# Altium integrated library Analog Devices Data Converters Analog-to-Digital Converters.IntLib: 2400 symbols (part 33 of 338)
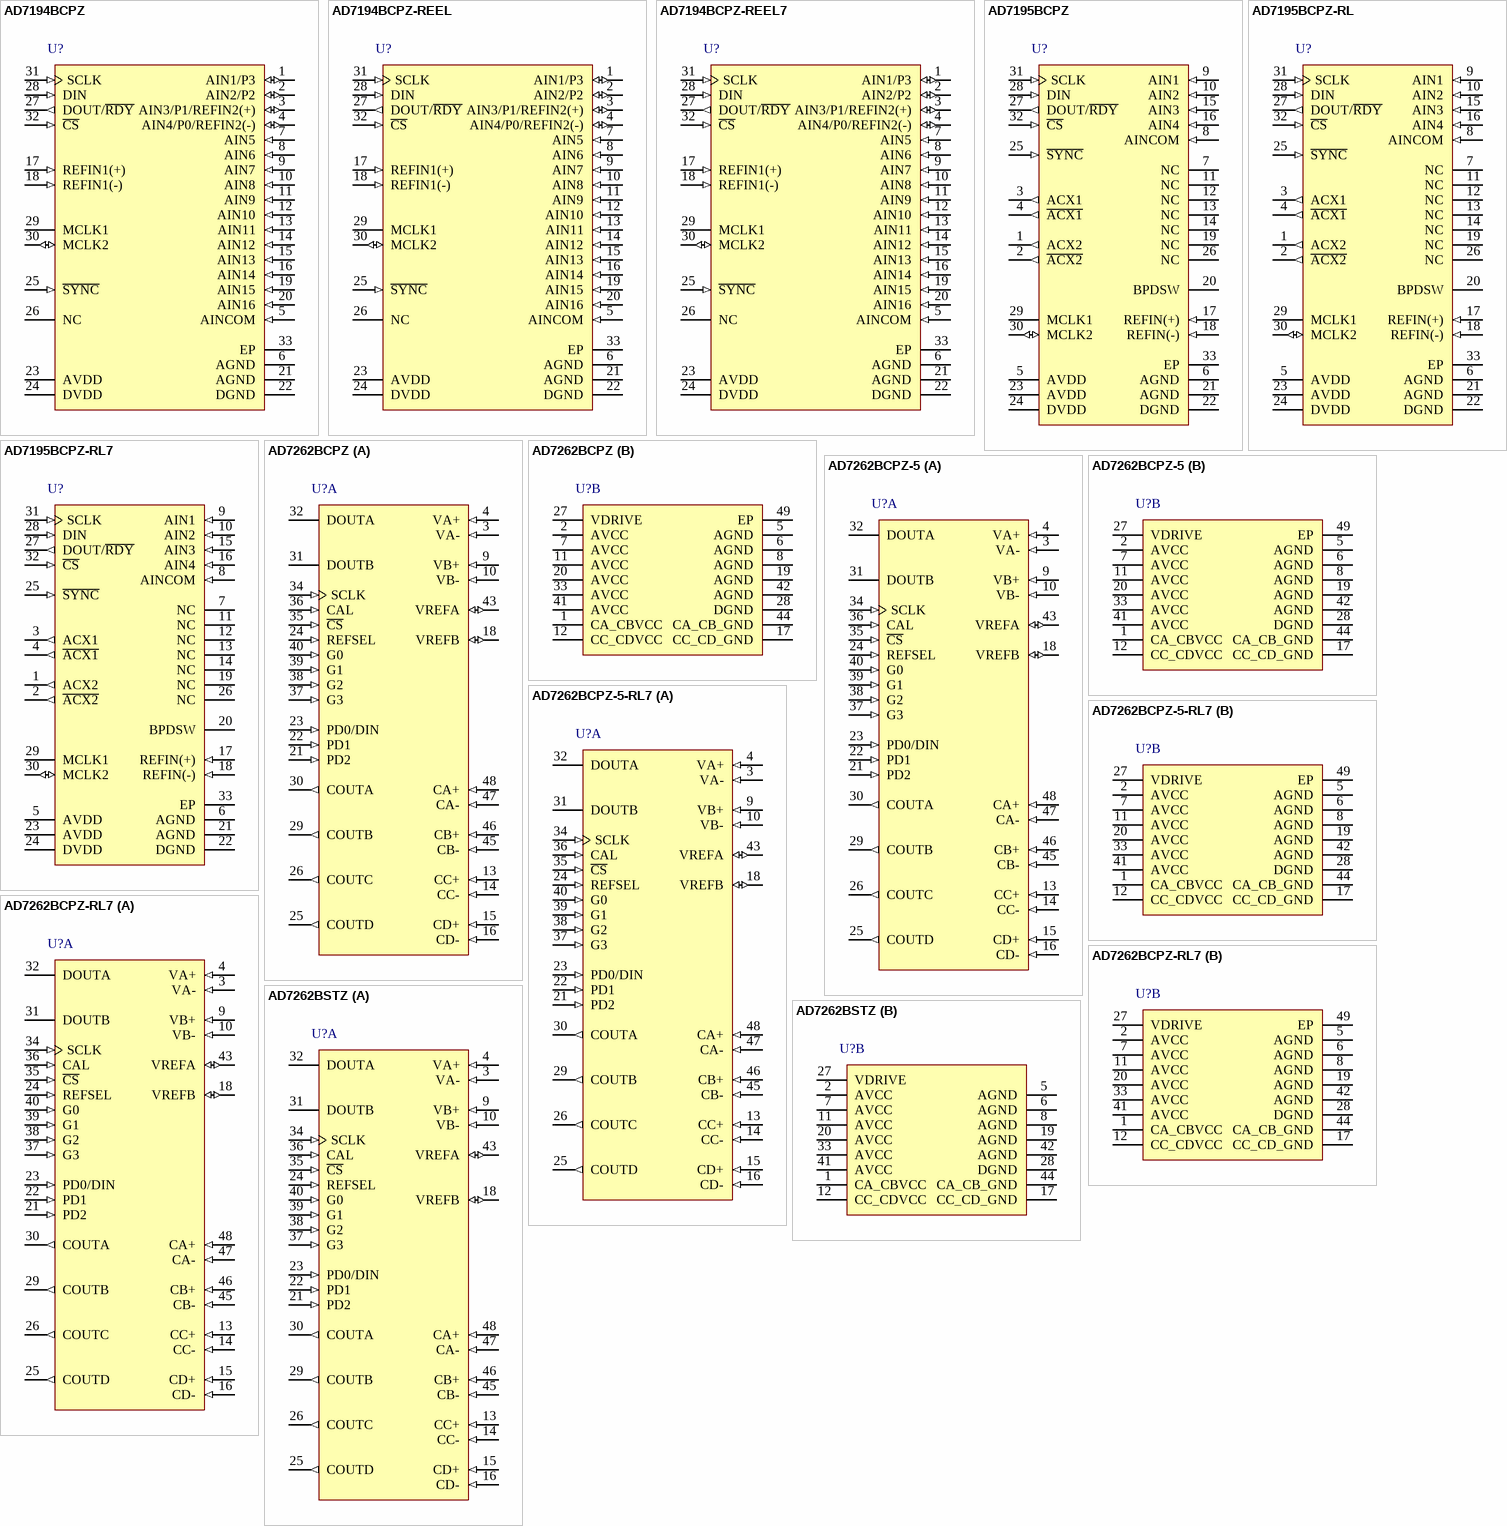
[diagram p173: symbols AD7194BCPZ to AD7262BSTZ]

## AD7195BCPZ-RL7
designator U?
Quad 24-Bit Ultralow Noise Sigma-Delta Analog-to-Digital Converter with Serial, SPI Interface and PGA, 4.8KSPS, -40 to +105 degC, CP-32-11, Pb-Free, Reel; Part Number: AD7195; Manufacturer: Analog Devices; Resolution (Bits): 24; Channels: 4; Throughput Rate (SPS): 4.8K; Interface: Ser, SPI; DatasheetVersion: Rev.0; PackageVersion: 011708-A; PackageReference: CP-32-11; PackageDescription: 32-Lead Lead Frame Chip Scale Package [LFCSP_VQ] 5 x 5 mm Body, Very Thin Quad; RoHS: Y; Packing: Reel; Mounting Technology: Surface Mount; ComponentLink1Description: Manufacturer URL; ComponentLink1URL: http://www.analog.com/en/index.html; ComponentLink2Description: Datasheet; ComponentLink2URL: http://www.analog.com/static/imported-files/data_sheets/AD7195.pdf; ComponentLink3Description: Package Specification; ComponentLink3URL: http://www.analog.com/static/imported-files/packages/PKG_PDF/LFCSP(CP)/CP-32/CP_32_11.pdf; ComponentLink4Description: Product URL; ComponentLink4URL: http://www.analog.com/en/analog-to-digital-converters/ad-converters/ad7195/products/product.html
footprint CP-32-11_N (QFN, 32-Leads, Body 5x5mm, Pitch 0.5mm, Thermal Pad 3.6x3.6mm, IPC Medium Density)
footprint CP-32-11_L (QFN, 32-Leads, Body 5x5mm, Pitch 0.5mm, Thermal Pad 3.6x3.6mm, IPC High Density)
footprint CP-32-11_M (QFN, 32-Leads, Body 5x5mm, Pitch 0.5mm, Thermal Pad 3.6x3.6mm, IPC Low Density)
pins: 1 ACX2 (out) "Digital Output. Provides a signal that can be used to control the reversing of the bridge excitation in ac excited bridge applications. In ac mode, ACX2 toggles in anti-phase with ACX1. If the ACX bit equals zero (ac (See Datasheet)", 2 ~{ACX2} (out) "Digital Output. Provides a signal that can be used to control the reversing of the bridge excitation in ac excited bridge applications. This output is the inverse of ACX2. If the ACX bit equals zero (ac excitation turned (See Datasheet)", 3 ACX1 (out) "Digital Output. Provides a signal that can be used to control the reversing of the bridge excitation in ac excited bridge applications. When ACX1 is high, the bridge excitation is taken as normal and when ACX1 is low, the (See Datasheet)", 4 ~{ACX1} (out) "Digital Output. Provides a signal that can be used to control the reversing of the bridge excitation in ac excited bridge applications. This output is the inverse of ACX1. When A\C\X\1\ is low, the bridge excitation is taken (See Datasheet)", 5 AVDD (power) "Analog Supply Voltage, 4.75 V to 5.25 V. AVDD is independent of DVDD.", 6 AGND (power) "Analog Ground Reference Point.", 7 NC "No Connect. This pin should be tied to AGND.", 8 AINCOM (in) "Analog inputs AIN1 to AIN4 are referenced to this input when configured for pseudo differential operation.", 9 AIN1 (in) "Analog Input. This pin can be configured as the positive input of a fully differential input pair when used with AIN2 or as a pseudo differential input when used with AINCOM.", 10 AIN2 (in) "Analog Input. This pin can be configured as the negative input of a fully differential input pair when used with AIN1 or as a pseudo differential input when used with AINCOM.", 11 NC "No Connect. This pin should be tied to AGND.", 12 NC "No Connect. This pin should be tied to AGND.", 13 NC "No Connect. This pin should be tied to AGND.", 14 NC "No Connect. This pin should be tied to AGND.", 15 AIN3 (in) "Analog Input. This pin can be configured as the positive input of a fully differential input pair when used with AIN4 or as a pseudo differential input when used with AINCOM.", 16 AIN4 (in) "Analog Input. This pin can be configured as the negative input of a fully differential input pair when used with AIN3 or as a pseudo differential input when used with AINCOM.", 17 REFIN(+) (in) "Positive Reference Input. An external reference can be applied between REFIN(+) and REFIN(-). REFIN(+) can lie anywhere between AVDD and AGND + 1 V. The nominal reference voltage, (REFIN(+) - REFIN(-)), is AVDD,but the part (See Datasheet)", 18 REFIN(-) (in) "Negative Reference Input. This reference input can lie anywhere between AGND and AVDD - 1 V.", 19 NC "No Connect. This pin should be tied to AGND.", 20 BPDSW "Bridge Power-Down Switch to AGND.", 21 AGND (power) "Analog Ground Reference Point.", 22 DGND (power) "Digital Ground Reference Point.", 23 AVDD (power) "Analog Supply Voltage, 4.75 V to 5.25 V. AVDD is independent of DVDD.", 24 DVDD (power) "Digital Supply Voltage, 2.7 V to 5.25 V. DVDD is independent of AVDD.", 25 ~{SYNC} (in) "Logic input that allows for synchronization of the digital filters and analog modulators when using a number of AD7195 devices. While S\Y\N\C\ is low, the nodes of the digital filter, the filter control logic, and the (See Datasheet)", 26 NC "No Connect. This pin should be tied to AGND.", 27 DOUT/~{RDY} (out) "Serial Data Output/Data Ready Output. DOUT/R\D\Y\ serves a dual purpose. It functions as a serial data output pin to access the output shift register of the ADC. The output shift register can contain data from any of the (See Datasheet)", 28 DIN (in) "Serial Data Input to the Input Shift Register on the ADC. Data in this shift register is transferred to the control registers in the ADC, with the register selection bits of the communications register identifying the (See Datasheet)", 29 MCLK1 "When the master clock for the device is provided externally by a crystal, the crystal is connected between MCLK1 and MCLK2.", 30 MCLK2 (io) "Master Clock Signal for the Device. The AD7195 has an internal 4.92 MHz clock. This internal clock can be made available on the MCLK2 pin. The clock for the AD7195 can be provided externally also in the form of a crystal or (See Datasheet)", 31 SCLK (in) "Serial Clock Input. This serial clock input is for data transfers to and from the ADC. The SCLK has a Schmitttriggered input, making the interface suitable for opto-isolated applications. The serial clock can be continuous (See Datasheet)", 32 ~{CS} (in) "Chip Select Input. This is an active low logic input used to select the ADC. C\S\ can be used to select the ADC in systems with more than one device on the serial bus or as a frame synchronization signal in communicating (See Datasheet)", 33 EP (power) "Connect Exposed Pad to AGND."

## AD7262BCPZ
designator U?
Dual 12-Bit SAR Analog-to-Digital Converter with Serial, SPI Interface and PGA, Four Comparators, Simultaneous Sampling, 1MSPS, -40 to +105 degC, CP-48-1, Pb-Free, Tray; Part Number: AD7262; Manufacturer: Analog Devices; Resolution (Bits): 12; Channels: 2; Throughput Rate (SPS): 1M; Interface: Ser, SPI; DatasheetVersion: Rev.0; PackageVersion: Jan-2005; PackageReference: CP-48-1; PackageDescription: 48-Lead Lead Frame Chip Scale Package [LFCSP_VQ] 7 x 7 mm Body, Very Thin Quad; RoHS: Y; Packing: Tray; Mounting Technology: Surface Mount; Code_JEDEC: MO-220-VKKD-2; ComponentLink1Description: Manufacturer URL; ComponentLink1URL: http://www.analog.com/en/index.html; ComponentLink2Description: Datasheet; ComponentLink2URL: http://www.analog.com/static/imported-files/data_sheets/AD7262.pdf; ComponentLink3Description: Package Specification; ComponentLink3URL: http://www.analog.com/static/imported-files/packages/PKG_PDF/LFCSP(CP)/CP-48/CP_48_1.pdf; ComponentLink4Description: Product URL; ComponentLink4URL: http://www.analog.com/en/analog-to-digital-converters/ad-converters/ad7262/products/product.html
footprint CP-48-1_N (QFN, 48-Leads, Body 7x7mm, Pitch 0.5mm, Thermal Pad 5.1x5.1mm, IPC Medium Density)
footprint CP-48-1_L (QFN, 48-Leads, Body 7x7mm, Pitch 0.5mm, Thermal Pad 5.1x5.1mm, IPC High Density)
footprint CP-48-1_M (QFN, 48-Leads, Body 7x7mm, Pitch 0.5mm, Thermal Pad 5.1x5.1mm, IPC Low Density)
part A pins: 3 VA- (in) "Analog Inputs of ADC A. True differential input pair.", 4 VA+ (in) "Analog Inputs of ADC A. True differential input pair.", 9 VB+ (in) "Analog Inputs of ADC B. True differential input pair", 10 VB- (in) "Analog Inputs of ADC B. True differential input pair", 13 CC+ (in) "Comparator Inputs. These pins are the inverting and noninverting analog inputs for Comparator C and Comparator D. This pair of comparators offers very fast propagation delays.", 14 CC- (in) "Comparator Inputs. These pins are the inverting and noninverting analog inputs for Comparator C and Comparator D. This pair of comparators offers very fast propagation delays.", 15 CD+ (in) "Comparator Inputs. These pins are the inverting and noninverting analog inputs for Comparator C and Comparator D. This pair of comparators offers very fast propagation delays.", 16 CD- (in) "Comparator Inputs. These pins are the inverting and noninverting analog inputs for Comparator C and Comparator D. This pair of comparators offers very fast propagation delays.", 18 VREFB (io) "Reference Input/Output. Decoupling capacitors are connected to these pins to decouple the internal reference buffer for each respective ADC. Typically, 1 uF capacitors are required to decouple the reference. Provided the (See Datasheet)", 21 PD2 (in) "Logic Input. Places the AD7262/AD7262-5 in selected shutdown mode in conjunction with the PD1 and PD0 pins.", 22 PD1 (in) "Logic Input. Places the AD7262/AD7262-5 in selected shutdown mode in conjunction with the PD2 and PD0 pins.", 23 PD0/DIN (in) "Logic Input/Data Input. Places the AD7262/AD7262-5 in selected shutdown mode in conjunction with the PD2 and PD1 pins (see Table 7). If all gain selection pins, G0 to G3, are tied low, this pin acts as the data input pin, (See Datasheet)", 24 REFSEL (in) "Internal/External Reference Selection. Logic input. If this pin is tied to a logic high voltage, the on chip 2.5 V reference is used as the reference source for both ADC A and ADC B. If the REFSEL pin is tied to GND, an (See Datasheet)", 25 COUTD (out) "Comparator Outputs. These pins provide a CMOS (push-pull) output from each respective comparator. These are digital output pins with logic levels determined by the VDRIVE supply.", 26 COUTC (out) "Comparator Outputs. These pins provide a CMOS (push-pull) output from each respective comparator. These are digital output pins with logic levels determined by the VDRIVE supply.", 29 COUTB (out) "Comparator Outputs. These pins provide a CMOS (push-pull) output from each respective comparator. These are digital output pins with logic levels determined by the VDRIVE supply.", 30 COUTA (out) "Comparator Outputs. These pins provide a CMOS (push-pull) output from each respective comparator. These are digital output pins with logic levels determined by the VDRIVE supply.", 31 DOUTB (hiz) "Serial Data Outputs. The data output from the AD7262/AD7262-5 is supplied to each pin as a serial data stream in twos complement format. The bits are clocked out on the falling edge of the SCLK input. A total of 31 SCLKs is (See Datasheet)", 32 DOUTA (hiz) "Serial Data Outputs. The data output from the AD7262/AD7262-5 is supplied to each pin as a serial data stream in twos complement format. The bits are clocked out on the falling edge of the SCLK input. A total of 31 SCLKs is (See Datasheet)", 34 SCLK (in) "Serial Clock. Logic input. A serial clock input provides the SCLK for accessing the data from the AD7262/AD7262-5. This clock is also used as the clock source for the conversion process. A minimum of 31 clocks is required to (See Datasheet)", 35 ~{CS} (in) "Chip Select. Active low logic input. This input initiates conversions on the AD7262/AD7262-5.", 36 CAL (in) "Logic Input. Initiates an internal offset calibration.", 37 G3 (in) "Logic Inputs. These pins are used to program the gain setting of the front-end amplifiers. If all four pins are tied low, the PD0 pin acts as a data input pin, DIN, and all programming is made via the control register.", 38 G2 (in) "Logic Inputs. These pins are used to program the gain setting of the front-end amplifiers. If all four pins are tied low, the PD0 pin acts as a data input pin, DIN, and all programming is made via the control register.", 39 G1 (in) "Logic Inputs. These pins are used to program the gain setting of the front-end amplifiers. If all four pins are tied low, the PD0 pin acts as a data input pin, DIN, and all programming is made via the control register.", 40 G0 (in) "Logic Inputs. These pins are used to program the gain setting of the front-end amplifiers. If all four pins are tied low, the PD0 pin acts as a data input pin, DIN, and all programming is made via the control register.", 43 VREFA (io) "Reference Input/Output. Decoupling capacitors are connected to these pins to decouple the internal reference buffer for each respective ADC. Typically, 1 uF capacitors are required to decouple the reference. Provided the (See Datasheet)", 45 CB- (in) "Comparator Inputs. These pins are the inverting and noninverting analog inputs for Comparator A and Comparator B. These two comparators have very low power consumption.", 46 CB+ (in) "Comparator Inputs. These pins are the inverting and noninverting analog inputs for Comparator A and Comparator B. These two comparators have very low power consumption.", 47 CA- (in) "Comparator Inputs. These pins are the inverting and noninverting analog inputs for Comparator A and Comparator B. These two comparators have very low power consumption.", 48 CA+ (in) "Comparator Inputs. These pins are the inverting and noninverting analog inputs for Comparator A and Comparator B. These two comparators have very low power consumption."
part B pins: 1 CA_CBVCC (power) "Comparator Supply Voltage, 2.7 V to 5.25 V. This is the supply voltage for Comparator A and Comparator B. This supply should be decoupled to CA_CB_GND. AVCC, CC_CDVCC, and CA_CBVCC can be tied together.", 2 AVCC (power) "Analog Supply Voltage, 4.75 V to 5.25 V. This is the supply voltage for the analog circuitry on the AD7262/AD7262-5. All AVCC pins can be tied together. This supply should be decoupled to AGND with a 100 nF ceramic capacitor (See Datasheet)", 5 AGND (power) "Analog Ground. Ground reference point for all analog circuitry on the AD7262/AD7262-5. All analog input signals and any external reference signal should be referred to this AGND voltage.  All AGND pins should connect to the (See Datasheet)", 6 AGND (power) "Analog Ground. Ground reference point for all analog circuitry on the AD7262/AD7262-5. All analog input signals and any external reference signal should be referred to this AGND voltage.  All AGND pins should connect to the (See Datasheet)", 7 AVCC (power) "Analog Supply Voltage, 4.75 V to 5.25 V. This is the supply voltage for the analog circuitry on the AD7262/AD7262-5. All AVCC pins can be tied together. This supply should be decoupled to AGND with a 100 nF ceramic capacitor (See Datasheet)", 8 AGND (power) "Analog Ground. Ground reference point for all analog circuitry on the AD7262/AD7262-5. All analog input signals and any external reference signal should be referred to this AGND voltage.  All AGND pins should connect to the (See Datasheet)", 11 AVCC (power) "Analog Supply Voltage, 4.75 V to 5.25 V. This is the supply voltage for the analog circuitry on the AD7262/AD7262-5. All AVCC pins can be tied together. This supply should be decoupled to AGND with a 100 nF ceramic capacitor (See Datasheet)", 12 CC_CDVCC (power) "Comparator Supply Voltage, 2.7 V to 5.25 V. This is the supply voltage for Comparator C and Comparator D. This supply should be decoupled to CC_CD_GND. AVCC, CC_CDVCC, and CA_CBVCC can be tied together.", 17 CC_CD_GND (power) "Comparator Ground. This is the ground reference point for all comparator circuitry on the AD7262/AD7262-5. Both the CA_CB_GND pin and the CC_CD_GND pin should connect to the GND plane of a system and can be tied to AGND. The (See Datasheet)", 19 AGND (power) "Analog Ground. Ground reference point for all analog circuitry on the AD7262/AD7262-5. All analog input signals and any external reference signal should be referred to this AGND voltage.  All AGND pins should connect to the (See Datasheet)", 20 AVCC (power) "Analog Supply Voltage, 4.75 V to 5.25 V. This is the supply voltage for the analog circuitry on the AD7262/AD7262-5. All AVCC pins can be tied together. This supply should be decoupled to AGND with a 100 nF ceramic capacitor (See Datasheet)", 27 VDRIVE (power) "Logic Power Supply Input, 2.7 V to 5.25 V. The voltage supplied at this pin determines at what voltage the interface operates, including the comparator outputs. This pin should be decoupled to DGND.", 28 DGND (power) "Digital Ground. This is the ground reference point for all digital circuitry on the AD7262/AD7262-5.The DGND pin should be connected to the DGND plane of a system. The DGND and AGND voltages should ideally be at the same (See Datasheet)", 33 AVCC (power) "Analog Supply Voltage, 4.75 V to 5.25 V. This is the supply voltage for the analog circuitry on the AD7262/AD7262-5. All AVCC pins can be tied together. This supply should be decoupled to AGND with a 100 nF ceramic capacitor (See Datasheet)", 41 AVCC (power) "Analog Supply Voltage, 4.75 V to 5.25 V. This is the supply voltage for the analog circuitry on the AD7262/AD7262-5. All AVCC pins can be tied together. This supply should be decoupled to AGND with a 100 nF ceramic capacitor (See Datasheet)", 42 AGND (power) "Analog Ground. Ground reference point for all analog circuitry on the AD7262/AD7262-5. All analog input signals and any external reference signal should be referred to this AGND voltage.  All AGND pins should connect to the (See Datasheet)", 44 CA_CB_GND (power) "Comparator Ground. This is the ground reference point for all comparator circuitry on the AD7262/AD7262-5. Both the CA_CB_GND pin and the CC_CD_GND pin should connect to the GND plane of a system and can be tied to AGND. The (See Datasheet)", 49 EP (power) "The exposed metal paddle on the bottom of theIFCPS package must be soldered to PCB ground for proper heat dissipation and also for noise and mechanical strength benefits."

## AD7262BCPZ-5
designator U?
Dual 12-Bit SAR Analog-to-Digital Converter with Serial, SPI Interface and PGA, Four Comparators, Simultaneous Sampling, 500KSPS, -40 to +105 degC, CP-48-1, Pb-Free, Tray; Part Number: AD7262-5; Manufacturer: Analog Devices; Resolution (Bits): 12; Channels: 2; Throughput Rate (SPS): 500K; Interface: Ser, SPI; DatasheetVersion: Rev.0; PackageVersion: Jan-2005; PackageReference: CP-48-1; PackageDescription: 48-Lead Lead Frame Chip Scale Package [LFCSP_VQ] 7 x 7 mm Body, Very Thin Quad; RoHS: Y; Packing: Tray; Mounting Technology: Surface Mount; Code_JEDEC: MO-220-VKKD-2; ComponentLink1Description: Manufacturer URL; ComponentLink1URL: http://www.analog.com/en/index.html; ComponentLink2Description: Datasheet; ComponentLink2URL: http://www.analog.com/static/imported-files/data_sheets/AD7262.pdf; ComponentLink3Description: Package Specification; ComponentLink3URL: http://www.analog.com/static/imported-files/packages/PKG_PDF/LFCSP(CP)/CP-48/CP_48_1.pdf; ComponentLink4Description: Product URL; ComponentLink4URL: http://www.analog.com/en/analog-to-digital-converters/ad-converters/ad7262/products/product.html
footprint CP-48-1_N (QFN, 48-Leads, Body 7x7mm, Pitch 0.5mm, Thermal Pad 5.1x5.1mm, IPC Medium Density)
footprint CP-48-1_L (QFN, 48-Leads, Body 7x7mm, Pitch 0.5mm, Thermal Pad 5.1x5.1mm, IPC High Density)
footprint CP-48-1_M (QFN, 48-Leads, Body 7x7mm, Pitch 0.5mm, Thermal Pad 5.1x5.1mm, IPC Low Density)
part A pins: 3 VA- (in) "Analog Inputs of ADC A. True differential input pair.", 4 VA+ (in) "Analog Inputs of ADC A. True differential input pair.", 9 VB+ (in) "Analog Inputs of ADC B. True differential input pair", 10 VB- (in) "Analog Inputs of ADC B. True differential input pair", 13 CC+ (in) "Comparator Inputs. These pins are the inverting and noninverting analog inputs for Comparator C and Comparator D. This pair of comparators offers very fast propagation delays.", 14 CC- (in) "Comparator Inputs. These pins are the inverting and noninverting analog inputs for Comparator C and Comparator D. This pair of comparators offers very fast propagation delays.", 15 CD+ (in) "Comparator Inputs. These pins are the inverting and noninverting analog inputs for Comparator C and Comparator D. This pair of comparators offers very fast propagation delays.", 16 CD- (in) "Comparator Inputs. These pins are the inverting and noninverting analog inputs for Comparator C and Comparator D. This pair of comparators offers very fast propagation delays.", 18 VREFB (io) "Reference Input/Output. Decoupling capacitors are connected to these pins to decouple the internal reference buffer for each respective ADC. Typically, 1 uF capacitors are required to decouple the reference. Provided the (See Datasheet)", 21 PD2 (in) "Logic Input. Places the AD7262/AD7262-5 in selected shutdown mode in conjunction with the PD1 and PD0 pins.", 22 PD1 (in) "Logic Input. Places the AD7262/AD7262-5 in selected shutdown mode in conjunction with the PD2 and PD0 pins.", 23 PD0/DIN (in) "Logic Input/Data Input. Places the AD7262/AD7262-5 in selected shutdown mode in conjunction with the PD2 and PD1 pins (see Table 7). If all gain selection pins, G0 to G3, are tied low, this pin acts as the data input pin, (See Datasheet)", 24 REFSEL (in) "Internal/External Reference Selection. Logic input. If this pin is tied to a logic high voltage, the on chip 2.5 V reference is used as the reference source for both ADC A and ADC B. If the REFSEL pin is tied to GND, an (See Datasheet)", 25 COUTD (out) "Comparator Outputs. These pins provide a CMOS (push-pull) output from each respective comparator. These are digital output pins with logic levels determined by the VDRIVE supply.", 26 COUTC (out) "Comparator Outputs. These pins provide a CMOS (push-pull) output from each respective comparator. These are digital output pins with logic levels determined by the VDRIVE supply.", 29 COUTB (out) "Comparator Outputs. These pins provide a CMOS (push-pull) output from each respective comparator. These are digital output pins with logic levels determined by the VDRIVE supply.", 30 COUTA (out) "Comparator Outputs. These pins provide a CMOS (push-pull) output from each respective comparator. These are digital output pins with logic levels determined by the VDRIVE supply.", 31 DOUTB (hiz) "Serial Data Outputs. The data output from the AD7262/AD7262-5 is supplied to each pin as a serial data stream in twos complement format. The bits are clocked out on the falling edge of the SCLK input. A total of 31 SCLKs is (See Datasheet)", 32 DOUTA (hiz) "Serial Data Outputs. The data output from the AD7262/AD7262-5 is supplied to each pin as a serial data stream in twos complement format. The bits are clocked out on the falling edge of the SCLK input. A total of 31 SCLKs is (See Datasheet)", 34 SCLK (in) "Serial Clock. Logic input. A serial clock input provides the SCLK for accessing the data from the AD7262/AD7262-5. This clock is also used as the clock source for the conversion process. A minimum of 31 clocks is required to (See Datasheet)", 35 ~{CS} (in) "Chip Select. Active low logic input. This input initiates conversions on the AD7262/AD7262-5.", 36 CAL (in) "Logic Input. Initiates an internal offset calibration.", 37 G3 (in) "Logic Inputs. These pins are used to program the gain setting of the front-end amplifiers. If all four pins are tied low, the PD0 pin acts as a data input pin, DIN, and all programming is made via the control register.", 38 G2 (in) "Logic Inputs. These pins are used to program the gain setting of the front-end amplifiers. If all four pins are tied low, the PD0 pin acts as a data input pin, DIN, and all programming is made via the control register.", 39 G1 (in) "Logic Inputs. These pins are used to program the gain setting of the front-end amplifiers. If all four pins are tied low, the PD0 pin acts as a data input pin, DIN, and all programming is made via the control register.", 40 G0 (in) "Logic Inputs. These pins are used to program the gain setting of the front-end amplifiers. If all four pins are tied low, the PD0 pin acts as a data input pin, DIN, and all programming is made via the control register.", 43 VREFA (io) "Reference Input/Output. Decoupling capacitors are connected to these pins to decouple the internal reference buffer for each respective ADC. Typically, 1 uF capacitors are required to decouple the reference. Provided the (See Datasheet)", 45 CB- (in) "Comparator Inputs. These pins are the inverting and noninverting analog inputs for Comparator A and Comparator B. These two comparators have very low power consumption.", 46 CB+ (in) "Comparator Inputs. These pins are the inverting and noninverting analog inputs for Comparator A and Comparator B. These two comparators have very low power consumption.", 47 CA- (in) "Comparator Inputs. These pins are the inverting and noninverting analog inputs for Comparator A and Comparator B. These two comparators have very low power consumption.", 48 CA+ (in) "Comparator Inputs. These pins are the inverting and noninverting analog inputs for Comparator A and Comparator B. These two comparators have very low power consumption."
part B pins: 1 CA_CBVCC (power) "Comparator Supply Voltage, 2.7 V to 5.25 V. This is the supply voltage for Comparator A and Comparator B. This supply should be decoupled to CA_CB_GND. AVCC, CC_CDVCC, and CA_CBVCC can be tied together.", 2 AVCC (power) "Analog Supply Voltage, 4.75 V to 5.25 V. This is the supply voltage for the analog circuitry on the AD7262/AD7262-5. All AVCC pins can be tied together. This supply should be decoupled to AGND with a 100 nF ceramic capacitor (See Datasheet)", 5 AGND (power) "Analog Ground. Ground reference point for all analog circuitry on the AD7262/AD7262-5. All analog input signals and any external reference signal should be referred to this AGND voltage.  All AGND pins should connect to the (See Datasheet)", 6 AGND (power) "Analog Ground. Ground reference point for all analog circuitry on the AD7262/AD7262-5. All analog input signals and any external reference signal should be referred to this AGND voltage.  All AGND pins should connect to the (See Datasheet)", 7 AVCC (power) "Analog Supply Voltage, 4.75 V to 5.25 V. This is the supply voltage for the analog circuitry on the AD7262/AD7262-5. All AVCC pins can be tied together. This supply should be decoupled to AGND with a 100 nF ceramic capacitor (See Datasheet)", 8 AGND (power) "Analog Ground. Ground reference point for all analog circuitry on the AD7262/AD7262-5. All analog input signals and any external reference signal should be referred to this AGND voltage.  All AGND pins should connect to the (See Datasheet)", 11 AVCC (power) "Analog Supply Voltage, 4.75 V to 5.25 V. This is the supply voltage for the analog circuitry on the AD7262/AD7262-5. All AVCC pins can be tied together. This supply should be decoupled to AGND with a 100 nF ceramic capacitor (See Datasheet)", 12 CC_CDVCC (power) "Comparator Supply Voltage, 2.7 V to 5.25 V. This is the supply voltage for Comparator C and Comparator D. This supply should be decoupled to CC_CD_GND. AVCC, CC_CDVCC, and CA_CBVCC can be tied together.", 17 CC_CD_GND (power) "Comparator Ground. This is the ground reference point for all comparator circuitry on the AD7262/AD7262-5. Both the CA_CB_GND pin and the CC_CD_GND pin should connect to the GND plane of a system and can be tied to AGND. The (See Datasheet)", 19 AGND (power) "Analog Ground. Ground reference point for all analog circuitry on the AD7262/AD7262-5. All analog input signals and any external reference signal should be referred to this AGND voltage.  All AGND pins should connect to the (See Datasheet)", 20 AVCC (power) "Analog Supply Voltage, 4.75 V to 5.25 V. This is the supply voltage for the analog circuitry on the AD7262/AD7262-5. All AVCC pins can be tied together. This supply should be decoupled to AGND with a 100 nF ceramic capacitor (See Datasheet)", 27 VDRIVE (power) "Logic Power Supply Input, 2.7 V to 5.25 V. The voltage supplied at this pin determines at what voltage the interface operates, including the comparator outputs. This pin should be decoupled to DGND.", 28 DGND (power) "Digital Ground. This is the ground reference point for all digital circuitry on the AD7262/AD7262-5.The DGND pin should be connected to the DGND plane of a system. The DGND and AGND voltages should ideally be at the same (See Datasheet)", 33 AVCC (power) "Analog Supply Voltage, 4.75 V to 5.25 V. This is the supply voltage for the analog circuitry on the AD7262/AD7262-5. All AVCC pins can be tied together. This supply should be decoupled to AGND with a 100 nF ceramic capacitor (See Datasheet)", 41 AVCC (power) "Analog Supply Voltage, 4.75 V to 5.25 V. This is the supply voltage for the analog circuitry on the AD7262/AD7262-5. All AVCC pins can be tied together. This supply should be decoupled to AGND with a 100 nF ceramic capacitor (See Datasheet)", 42 AGND (power) "Analog Ground. Ground reference point for all analog circuitry on the AD7262/AD7262-5. All analog input signals and any external reference signal should be referred to this AGND voltage.  All AGND pins should connect to the (See Datasheet)", 44 CA_CB_GND (power) "Comparator Ground. This is the ground reference point for all comparator circuitry on the AD7262/AD7262-5. Both the CA_CB_GND pin and the CC_CD_GND pin should connect to the GND plane of a system and can be tied to AGND. The (See Datasheet)", 49 EP (power) "The exposed metal paddle on the bottom of theIFCPS package must be soldered to PCB ground for proper heat dissipation and also for noise and mechanical strength benefits."

## AD7262BCPZ-5-RL7
designator U?
Dual 12-Bit SAR Analog-to-Digital Converter with Serial, SPI Interface and PGA, Four Comparators, Simultaneous Sampling, 500KSPS, -40 to +105 degC, CP-48-1, Pb-Free, Reel; Part Number: AD7262-5; Manufacturer: Analog Devices; Resolution (Bits): 12; Channels: 2; Throughput Rate (SPS): 500K; Interface: Ser, SPI; DatasheetVersion: Rev.0; PackageVersion: Jan-2005; PackageReference: CP-48-1; PackageDescription: 48-Lead Lead Frame Chip Scale Package [LFCSP_VQ] 7 x 7 mm Body, Very Thin Quad; RoHS: Y; Packing: Reel; Mounting Technology: Surface Mount; Code_JEDEC: MO-220-VKKD-2; ComponentLink1Description: Manufacturer URL; ComponentLink1URL: http://www.analog.com/en/index.html; ComponentLink2Description: Datasheet; ComponentLink2URL: http://www.analog.com/static/imported-files/data_sheets/AD7262.pdf; ComponentLink3Description: Package Specification; ComponentLink3URL: http://www.analog.com/static/imported-files/packages/PKG_PDF/LFCSP(CP)/CP-48/CP_48_1.pdf; ComponentLink4Description: Product URL; ComponentLink4URL: http://www.analog.com/en/analog-to-digital-converters/ad-converters/ad7262/products/product.html
footprint CP-48-1_N (QFN, 48-Leads, Body 7x7mm, Pitch 0.5mm, Thermal Pad 5.1x5.1mm, IPC Medium Density)
footprint CP-48-1_L (QFN, 48-Leads, Body 7x7mm, Pitch 0.5mm, Thermal Pad 5.1x5.1mm, IPC High Density)
footprint CP-48-1_M (QFN, 48-Leads, Body 7x7mm, Pitch 0.5mm, Thermal Pad 5.1x5.1mm, IPC Low Density)
part A pins: 3 VA- (in) "Analog Inputs of ADC A. True differential input pair.", 4 VA+ (in) "Analog Inputs of ADC A. True differential input pair.", 9 VB+ (in) "Analog Inputs of ADC B. True differential input pair", 10 VB- (in) "Analog Inputs of ADC B. True differential input pair", 13 CC+ (in) "Comparator Inputs. These pins are the inverting and noninverting analog inputs for Comparator C and Comparator D. This pair of comparators offers very fast propagation delays.", 14 CC- (in) "Comparator Inputs. These pins are the inverting and noninverting analog inputs for Comparator C and Comparator D. This pair of comparators offers very fast propagation delays.", 15 CD+ (in) "Comparator Inputs. These pins are the inverting and noninverting analog inputs for Comparator C and Comparator D. This pair of comparators offers very fast propagation delays.", 16 CD- (in) "Comparator Inputs. These pins are the inverting and noninverting analog inputs for Comparator C and Comparator D. This pair of comparators offers very fast propagation delays.", 18 VREFB (io) "Reference Input/Output. Decoupling capacitors are connected to these pins to decouple the internal reference buffer for each respective ADC. Typically, 1 uF capacitors are required to decouple the reference. Provided the (See Datasheet)", 21 PD2 (in) "Logic Input. Places the AD7262/AD7262-5 in selected shutdown mode in conjunction with the PD1 and PD0 pins.", 22 PD1 (in) "Logic Input. Places the AD7262/AD7262-5 in selected shutdown mode in conjunction with the PD2 and PD0 pins.", 23 PD0/DIN (in) "Logic Input/Data Input. Places the AD7262/AD7262-5 in selected shutdown mode in conjunction with the PD2 and PD1 pins (see Table 7). If all gain selection pins, G0 to G3, are tied low, this pin acts as the data input pin, (See Datasheet)", 24 REFSEL (in) "Internal/External Reference Selection. Logic input. If this pin is tied to a logic high voltage, the on chip 2.5 V reference is used as the reference source for both ADC A and ADC B. If the REFSEL pin is tied to GND, an (See Datasheet)", 25 COUTD (out) "Comparator Outputs. These pins provide a CMOS (push-pull) output from each respective comparator. These are digital output pins with logic levels determined by the VDRIVE supply.", 26 COUTC (out) "Comparator Outputs. These pins provide a CMOS (push-pull) output from each respective comparator. These are digital output pins with logic levels determined by the VDRIVE supply.", 29 COUTB (out) "Comparator Outputs. These pins provide a CMOS (push-pull) output from each respective comparator. These are digital output pins with logic levels determined by the VDRIVE supply.", 30 COUTA (out) "Comparator Outputs. These pins provide a CMOS (push-pull) output from each respective comparator. These are digital output pins with logic levels determined by the VDRIVE supply.", 31 DOUTB (hiz) "Serial Data Outputs. The data output from the AD7262/AD7262-5 is supplied to each pin as a serial data stream in twos complement format. The bits are clocked out on the falling edge of the SCLK input. A total of 31 SCLKs is (See Datasheet)", 32 DOUTA (hiz) "Serial Data Outputs. The data output from the AD7262/AD7262-5 is supplied to each pin as a serial data stream in twos complement format. The bits are clocked out on the falling edge of the SCLK input. A total of 31 SCLKs is (See Datasheet)", 34 SCLK (in) "Serial Clock. Logic input. A serial clock input provides the SCLK for accessing the data from the AD7262/AD7262-5. This clock is also used as the clock source for the conversion process. A minimum of 31 clocks is required to (See Datasheet)", 35 ~{CS} (in) "Chip Select. Active low logic input. This input initiates conversions on the AD7262/AD7262-5.", 36 CAL (in) "Logic Input. Initiates an internal offset calibration.", 37 G3 (in) "Logic Inputs. These pins are used to program the gain setting of the front-end amplifiers. If all four pins are tied low, the PD0 pin acts as a data input pin, DIN, and all programming is made via the control register.", 38 G2 (in) "Logic Inputs. These pins are used to program the gain setting of the front-end amplifiers. If all four pins are tied low, the PD0 pin acts as a data input pin, DIN, and all programming is made via the control register.", 39 G1 (in) "Logic Inputs. These pins are used to program the gain setting of the front-end amplifiers. If all four pins are tied low, the PD0 pin acts as a data input pin, DIN, and all programming is made via the control register.", 40 G0 (in) "Logic Inputs. These pins are used to program the gain setting of the front-end amplifiers. If all four pins are tied low, the PD0 pin acts as a data input pin, DIN, and all programming is made via the control register.", 43 VREFA (io) "Reference Input/Output. Decoupling capacitors are connected to these pins to decouple the internal reference buffer for each respective ADC. Typically, 1 uF capacitors are required to decouple the reference. Provided the (See Datasheet)", 45 CB- (in) "Comparator Inputs. These pins are the inverting and noninverting analog inputs for Comparator A and Comparator B. These two comparators have very low power consumption.", 46 CB+ (in) "Comparator Inputs. These pins are the inverting and noninverting analog inputs for Comparator A and Comparator B. These two comparators have very low power consumption.", 47 CA- (in) "Comparator Inputs. These pins are the inverting and noninverting analog inputs for Comparator A and Comparator B. These two comparators have very low power consumption.", 48 CA+ (in) "Comparator Inputs. These pins are the inverting and noninverting analog inputs for Comparator A and Comparator B. These two comparators have very low power consumption."
part B pins: 1 CA_CBVCC (power) "Comparator Supply Voltage, 2.7 V to 5.25 V. This is the supply voltage for Comparator A and Comparator B. This supply should be decoupled to CA_CB_GND. AVCC, CC_CDVCC, and CA_CBVCC can be tied together.", 2 AVCC (power) "Analog Supply Voltage, 4.75 V to 5.25 V. This is the supply voltage for the analog circuitry on the AD7262/AD7262-5. All AVCC pins can be tied together. This supply should be decoupled to AGND with a 100 nF ceramic capacitor (See Datasheet)", 5 AGND (power) "Analog Ground. Ground reference point for all analog circuitry on the AD7262/AD7262-5. All analog input signals and any external reference signal should be referred to this AGND voltage.  All AGND pins should connect to the (See Datasheet)", 6 AGND (power) "Analog Ground. Ground reference point for all analog circuitry on the AD7262/AD7262-5. All analog input signals and any external reference signal should be referred to this AGND voltage.  All AGND pins should connect to the (See Datasheet)", 7 AVCC (power) "Analog Supply Voltage, 4.75 V to 5.25 V. This is the supply voltage for the analog circuitry on the AD7262/AD7262-5. All AVCC pins can be tied together. This supply should be decoupled to AGND with a 100 nF ceramic capacitor (See Datasheet)", 8 AGND (power) "Analog Ground. Ground reference point for all analog circuitry on the AD7262/AD7262-5. All analog input signals and any external reference signal should be referred to this AGND voltage.  All AGND pins should connect to the (See Datasheet)", 11 AVCC (power) "Analog Supply Voltage, 4.75 V to 5.25 V. This is the supply voltage for the analog circuitry on the AD7262/AD7262-5. All AVCC pins can be tied together. This supply should be decoupled to AGND with a 100 nF ceramic capacitor (See Datasheet)", 12 CC_CDVCC (power) "Comparator Supply Voltage, 2.7 V to 5.25 V. This is the supply voltage for Comparator C and Comparator D. This supply should be decoupled to CC_CD_GND. AVCC, CC_CDVCC, and CA_CBVCC can be tied together.", 17 CC_CD_GND (power) "Comparator Ground. This is the ground reference point for all comparator circuitry on the AD7262/AD7262-5. Both the CA_CB_GND pin and the CC_CD_GND pin should connect to the GND plane of a system and can be tied to AGND. The (See Datasheet)", 19 AGND (power) "Analog Ground. Ground reference point for all analog circuitry on the AD7262/AD7262-5. All analog input signals and any external reference signal should be referred to this AGND voltage.  All AGND pins should connect to the (See Datasheet)", 20 AVCC (power) "Analog Supply Voltage, 4.75 V to 5.25 V. This is the supply voltage for the analog circuitry on the AD7262/AD7262-5. All AVCC pins can be tied together. This supply should be decoupled to AGND with a 100 nF ceramic capacitor (See Datasheet)", 27 VDRIVE (power) "Logic Power Supply Input, 2.7 V to 5.25 V. The voltage supplied at this pin determines at what voltage the interface operates, including the comparator outputs. This pin should be decoupled to DGND.", 28 DGND (power) "Digital Ground. This is the ground reference point for all digital circuitry on the AD7262/AD7262-5.The DGND pin should be connected to the DGND plane of a system. The DGND and AGND voltages should ideally be at the same (See Datasheet)", 33 AVCC (power) "Analog Supply Voltage, 4.75 V to 5.25 V. This is the supply voltage for the analog circuitry on the AD7262/AD7262-5. All AVCC pins can be tied together. This supply should be decoupled to AGND with a 100 nF ceramic capacitor (See Datasheet)", 41 AVCC (power) "Analog Supply Voltage, 4.75 V to 5.25 V. This is the supply voltage for the analog circuitry on the AD7262/AD7262-5. All AVCC pins can be tied together. This supply should be decoupled to AGND with a 100 nF ceramic capacitor (See Datasheet)", 42 AGND (power) "Analog Ground. Ground reference point for all analog circuitry on the AD7262/AD7262-5. All analog input signals and any external reference signal should be referred to this AGND voltage.  All AGND pins should connect to the (See Datasheet)", 44 CA_CB_GND (power) "Comparator Ground. This is the ground reference point for all comparator circuitry on the AD7262/AD7262-5. Both the CA_CB_GND pin and the CC_CD_GND pin should connect to the GND plane of a system and can be tied to AGND. The (See Datasheet)", 49 EP (power) "The exposed metal paddle on the bottom of theIFCPS package must be soldered to PCB ground for proper heat dissipation and also for noise and mechanical strength benefits."